# Altium footprint library SAMTEC_TSM.PCBLIB: 11 footprints
Each footprint in its own frame and in the unit in brackets; x right, y up, seen from the top. Pads: shape width x height; smd on the part's side, far side on the other; paste and mask are expansions set on the pad; w line width, h text height; cw(c..) or ccw(c..) is an arc to the next point about the centre after c.
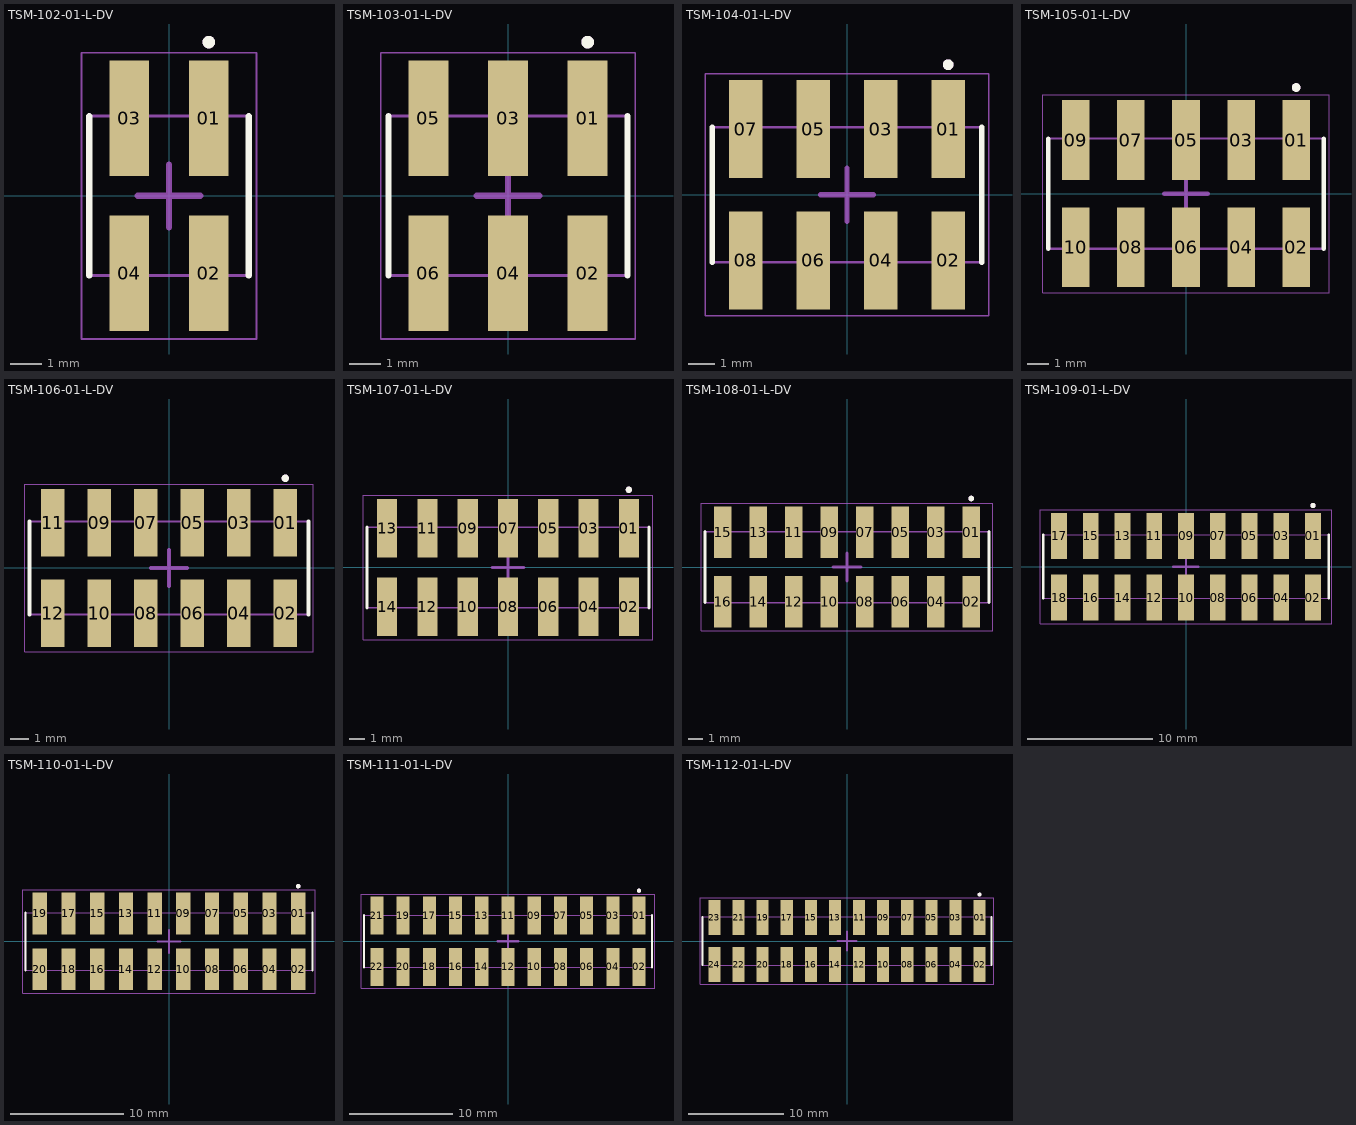
[diagram p0: the footprints below, top view; thin cyan lines are the x and y axes]

## TSM-102-01-L-DV [mm]
pads (4):
  rect 1.27x3.68 smd: 01(1.27,2.475) 02(1.27,-2.475) 03(-1.27,2.475) 04(-1.27,-2.475)
Top Overlay:
  circle w0.2: c1.27,4.9 r0.1
  lines w0.2: -2.54,-2.54 -2.54,2.54 ; 2.54,-2.54 2.54,2.54
Top Assembly:
  circle w0.2: c1.27,4.9 r0.1
  lines w0.1: -2.54,-2.54 2.54,-2.54 2.54,2.54 -2.54,2.54 -2.54,-2.54
Top Courtyard:
  lines w0.05: -2.79,-4.565 2.79,-4.565 2.79,4.565 -2.79,4.565 -2.79,-4.565
Top Designator:
  text ".Designator" at -2.508,-0.4 h0.76
Top Component Center:
  lines w0.2: -1,0 1,0 ; 0,-1 0,1
3D body "TSM-102-01-L-DV-P-TR.stp": height 10.92, standoff 0, extent -2.54,-3.848 2.54,3.848

## TSM-103-01-L-DV [mm]
pads (6):
  rect 1.27x3.68 smd: 01(2.54,2.475) 02(2.54,-2.475) 03(0,2.475) 04(0,-2.475) 05(-2.54,2.475) 06(-2.54,-2.475)
Top Overlay:
  circle w0.2: c2.54,4.9 r0.1
  lines w0.2: -3.81,-2.54 -3.81,2.54 ; 3.81,-2.54 3.81,2.54
Top Assembly:
  circle w0.2: c2.54,4.9 r0.1
  lines w0.1: -3.81,-2.54 3.81,-2.54 3.81,2.54 -3.81,2.54 -3.81,-2.54
Top Courtyard:
  lines w0.05: -4.06,-4.565 4.06,-4.565 4.06,4.565 -4.06,4.565 -4.06,-4.565
Top Designator:
  text ".Designator" at -1.108,-0.4 h0.76
Top Component Center:
  lines w0.2: -1,0 1,0 ; 0,-1 0,1
3D body "step_temp.STEP": height 9.91, standoff 0, extent -3.81,-3.848 3.81,3.848

## TSM-104-01-L-DV [mm]
pads (8):
  rect 1.27x3.68 smd: 01(3.81,2.475) 02(3.81,-2.475) 03(1.27,2.475) 04(1.27,-2.475) 05(-1.27,2.475) 06(-1.27,-2.475) 07(-3.81,2.475) 08(-3.81,-2.475)
Top Overlay:
  circle w0.2: c3.81,4.9 r0.1
  lines w0.2: -5.08,-2.54 -5.08,2.54 ; 5.08,-2.54 5.08,2.54
Top Assembly:
  circle w0.2: c3.81,4.9 r0.1
  lines w0.1: -5.08,-2.54 -5.08,2.54 5.08,2.54 5.08,-2.54 -5.08,-2.54
Top Courtyard:
  lines w0.05: -5.33,-4.565 -5.33,4.565 5.33,4.565 5.33,-4.565 -5.33,-4.565
Top Designator:
  text ".Designator" at -1.108,-0.4 h0.76
Top Component Center:
  lines w0.2: -1,0 1,0 ; 0,-1 0,1
3D body "step_temp.STEP": height 9.91, standoff 0, extent -5.08,-3.848 5.08,3.848

## TSM-105-01-L-DV [mm]
pads (10):
  rect 1.27x3.68 smd: 01(5.08,2.475) 02(5.08,-2.475) 03(2.54,2.475) 04(2.54,-2.475) 05(0,2.475) 06(0,-2.475) 07(-2.54,2.475) 08(-2.54,-2.475) 09(-5.08,2.475) 10(-5.08,-2.475)
Top Overlay:
  circle w0.2: c5.08,4.9 r0.1
  lines w0.2: -6.35,-2.54 -6.35,2.54 ; 6.35,-2.54 6.35,2.54
Top Assembly:
  circle w0.2: c5.08,4.9 r0.1
  lines w0.1: -6.35,-2.54 -6.35,2.54 6.35,2.54 6.35,-2.54 -6.35,-2.54
Top Courtyard:
  lines w0.05: -6.6,-4.565 -6.6,4.565 6.6,4.565 6.6,-4.565 -6.6,-4.565
Top Designator:
  text ".Designator" at -1.362,-0.4 h0.76
Top Component Center:
  lines w0.2: -1,0 1,0 ; 0,-1 0,1
3D body "step_temp.STEP": height 9.91, standoff 0, extent -6.35,-3.848 6.35,3.848

## TSM-106-01-L-DV [mm]
pads (12):
  rect 1.27x3.68 smd: 01(6.35,2.475) 02(6.35,-2.475) 03(3.81,2.475) 04(3.81,-2.475) 05(1.27,2.475) 06(1.27,-2.475) 07(-1.27,2.475) 08(-1.27,-2.475) 09(-3.81,2.475) 10(-3.81,-2.475) 11(-6.35,2.475) 12(-6.35,-2.475)
Top Overlay:
  circle w0.2: c6.35,4.9 r0.1
  lines w0.2: -7.62,-2.54 -7.62,2.54 ; 7.62,-2.54 7.62,2.54
Top Assembly:
  circle w0.2: c6.35,4.9 r0.1
  lines w0.1: -7.62,-2.54 7.62,-2.54 7.62,2.54 -7.62,2.54 -7.62,-2.54
Top Courtyard:
  lines w0.05: -7.87,-4.565 7.87,-4.565 7.87,4.565 -7.87,4.565 -7.87,-4.565
Top Designator:
  text ".Designator" at -0.3,-0.3 h0.76
Top Component Center:
  lines w0.2: -1,0 1,0 ; 0,-1 0,1
3D body "step_temp.STEP": height 9.91, standoff 0, extent -7.62,-3.848 7.62,3.848

## TSM-107-01-L-DV [mm]
pads (14):
  rect 1.27x3.68 smd: 01(7.62,2.475) 02(7.62,-2.475) 03(5.08,2.475) 04(5.08,-2.475) 05(2.54,2.475) 06(2.54,-2.475) 07(0,2.475) 08(0,-2.475) 09(-2.54,2.475) 10(-2.54,-2.475) 11(-5.08,2.475) 12(-5.08,-2.475) 13(-7.62,2.475) 14(-7.62,-2.475)
Top Overlay:
  circle w0.2: c7.62,4.9 r0.1
  lines w0.2: -8.89,-2.54 -8.89,2.54 ; 8.89,-2.54 8.89,2.54
Top Assembly:
  circle w0.2: c7.62,4.9 r0.1
  lines w0.1: -8.89,-2.54 -8.89,2.54 8.89,2.54 8.89,-2.54 -8.89,-2.54
Top Courtyard:
  lines w0.05: -9.14,-4.565 -9.14,4.565 9.14,4.565 9.14,-4.565 -9.14,-4.565
Top Designator:
  text ".Designator" at 0.9,-0.3 h0.76
Top Component Center:
  lines w0.2: -1,0 1,0 ; 0,-1 0,1
3D body "TSM-107-01-L-DV.stp": height 9.65, standoff 0, extent -8.89,-3.796 8.89,3.9

## TSM-108-01-L-DV [mm]
pads (16):
  rect 1.27x3.68 smd: 01(8.89,2.475) 02(8.89,-2.475) 03(6.35,2.475) 04(6.35,-2.475) 05(3.81,2.475) 06(3.81,-2.475) 07(1.27,2.475) 08(1.27,-2.475) 09(-1.27,2.475) 10(-1.27,-2.475) 11(-3.81,2.475) 12(-3.81,-2.475) 13(-6.35,2.475) 14(-6.35,-2.475) 15(-8.89,2.475) 16(-8.89,-2.475)
Top Overlay:
  circle w0.2: c8.89,4.9 r0.1
  lines w0.2: -10.16,-2.54 -10.16,2.54 ; 10.16,-2.54 10.16,2.54
Top Assembly:
  circle w0.2: c8.89,4.9 r0.1
  lines w0.1: -10.16,-2.54 -10.16,2.54 10.16,2.54 10.16,-2.54 -10.16,-2.54
Top Courtyard:
  lines w0.05: -10.41,-4.565 -10.41,4.565 10.41,4.565 10.41,-4.565 -10.41,-4.565
Top Designator:
  text ".Designator" at -0.3,-0.3 h0.76
Top Component Center:
  lines w0.2: -1,0 1,0 ; 0,-1 0,1
3D body "step_temp.STEP": height 9.91, standoff 0, extent -10.16,-3.848 10.16,3.848

## TSM-109-01-L-DV [mm]
pads (18):
  rect 1.27x3.68 smd: 01(10.16,2.475) 02(10.16,-2.475) 03(7.62,2.475) 04(7.62,-2.475) 05(5.08,2.475) 06(5.08,-2.475) 07(2.54,2.475) 08(2.54,-2.475) 09(0,2.475) 10(0,-2.475) 11(-2.54,2.475) 12(-2.54,-2.475) 13(-5.08,2.475) 14(-5.08,-2.475) 15(-7.62,2.475) 16(-7.62,-2.475) 17(-10.16,2.475) 18(-10.16,-2.475)
Top Overlay:
  circle w0.2: c10.16,4.9 r0.1
  lines w0.2: -11.43,-2.54 -11.43,2.54 ; 11.43,-2.54 11.43,2.54
Top Assembly:
  circle w0.2: c10.16,4.9 r0.1
  lines w0.1: -11.43,-2.54 -11.43,2.54 11.43,2.54 11.43,-2.54 -11.43,-2.54
Top Courtyard:
  lines w0.05: -11.68,-4.565 -11.68,4.565 11.68,4.565 11.68,-4.565 -11.68,-4.565
Top Designator:
  text ".Designator" at 0.7,-0.2 h0.76
Top Component Center:
  lines w0.2: -1,0 1,0 ; 0,-1 0,1
3D body "TSM-109-01-L-DV-P-TR.stp": height 10.92, standoff 0, extent -11.43,-4 11.43,3.696

## TSM-110-01-L-DV [mm]
pads (20):
  rect 1.27x3.68 smd: 01(11.43,2.475) 02(11.43,-2.475) 03(8.89,2.475) 04(8.89,-2.475) 05(6.35,2.475) 06(6.35,-2.475) 07(3.81,2.475) 08(3.81,-2.475) 09(1.27,2.475) 10(1.27,-2.475) 11(-1.27,2.475) 12(-1.27,-2.475) 13(-3.81,2.475) 14(-3.81,-2.475) 15(-6.35,2.475) 16(-6.35,-2.475) 17(-8.89,2.475) 18(-8.89,-2.475) 19(-11.43,2.475) 20(-11.43,-2.475)
Top Overlay:
  circle w0.2: c11.43,4.9 r0.1
  lines w0.2: -12.7,-2.54 -12.7,2.54 ; 12.7,-2.54 12.7,2.54
Top Assembly:
  circle w0.2: c11.43,4.9 r0.1
  lines w0.1: -12.7,-2.54 -12.7,2.54 12.7,2.54 12.7,-2.54 -12.7,-2.54
Top Courtyard:
  lines w0.05: -12.95,-4.565 -12.95,4.565 12.95,4.565 12.95,-4.565 -12.95,-4.565
Top Designator:
  text ".Designator" at 0.376,-0.354 h0.76
Top Component Center:
  lines w0.2: -1,0 1,0 ; 0,-1 0,1
3D body "TSM-110-01-L-DV.stp": height 9.91, standoff 0, extent -12.688,-3.747 12.712,3.949

## TSM-111-01-L-DV [mm]
pads (22):
  rect 1.27x3.68 smd: 01(12.7,2.475) 02(12.7,-2.475) 03(10.16,2.475) 04(10.16,-2.475) 05(7.62,2.475) 06(7.62,-2.475) 07(5.08,2.475) 08(5.08,-2.475) 09(2.54,2.475) 10(2.54,-2.475) 11(0,2.475) 12(0,-2.475) 13(-2.54,2.475) 14(-2.54,-2.475) 15(-5.08,2.475) 16(-5.08,-2.475) 17(-7.62,2.475) 18(-7.62,-2.475) 19(-10.16,2.475) 20(-10.16,-2.475) 21(-12.7,2.475) 22(-12.7,-2.475)
Top Overlay:
  circle w0.2: c12.7,4.9 r0.1
  lines w0.2: -13.97,-2.54 -13.97,2.54 ; 13.97,-2.54 13.97,2.54
Top Assembly:
  circle w0.2: c12.7,4.9 r0.1
  lines w0.1: -13.97,-2.54 -13.97,2.54 13.97,2.54 13.97,-2.54 -13.97,-2.54
Top Courtyard:
  lines w0.05: -14.22,-4.565 -14.22,4.565 14.22,4.565 14.22,-4.565 -14.22,-4.565
Top Designator:
  text ".Designator" at 0.376,-0.354 h0.76
Top Component Center:
  lines w0.2: -1,0 1,0 ; 0,-1 0,1
3D body "TSM-111-01-L-DV.stp": height 11.94, standoff 0, extent -13.97,-3.8 13.97,3.642

## TSM-112-01-L-DV [mm]
pads (24):
  rect 1.27x3.68 smd: 01(13.97,2.475) 02(13.97,-2.475) 03(11.43,2.475) 04(11.43,-2.475) 05(8.89,2.475) 06(8.89,-2.475) 07(6.35,2.475) 08(6.35,-2.475) 09(3.81,2.475) 10(3.81,-2.475) 11(1.27,2.475) 12(1.27,-2.475) 13(-1.27,2.475) 14(-1.27,-2.475) 15(-3.81,2.475) 16(-3.81,-2.475) 17(-6.35,2.475) 18(-6.35,-2.475) 19(-8.89,2.475) 20(-8.89,-2.475) 21(-11.43,2.475) 22(-11.43,-2.475) 23(-13.97,2.475) 24(-13.97,-2.475)
Top Overlay:
  circle w0.2: c13.97,4.9 r0.1
  lines w0.2: -15.24,-2.54 -15.24,2.54 ; 15.24,-2.54 15.24,2.54
Top Assembly:
  circle w0.2: c13.97,4.9 r0.1
  lines w0.1: -15.24,-2.54 15.24,-2.54 15.24,2.54 -15.24,2.54 -15.24,-2.54
Top Courtyard:
  lines w0.05: -15.49,-4.565 15.49,-4.565 15.49,4.565 -15.49,4.565 -15.49,-4.565
Top Designator:
  text ".Designator" at -1.524,-0.254 h0.76
Top Component Center:
  lines w0.2: -1,0 1,0 ; 0,-1 0,1
3D body "step_temp.STEP": height 9.91, standoff 0, extent -15.24,-3.848 15.24,3.848